# Altium footprint library mylib.PcbLib: 214 footprints (part 13 of 14)
Each footprint in its own frame and in the unit in brackets; x right, y up, seen from the top. Pads: shape width x height; smd on the part's side, far side on the other; paste and mask are expansions set on the pad; w line width, h text height; cw(c..) or ccw(c..) is an arc to the next point about the centre after c.
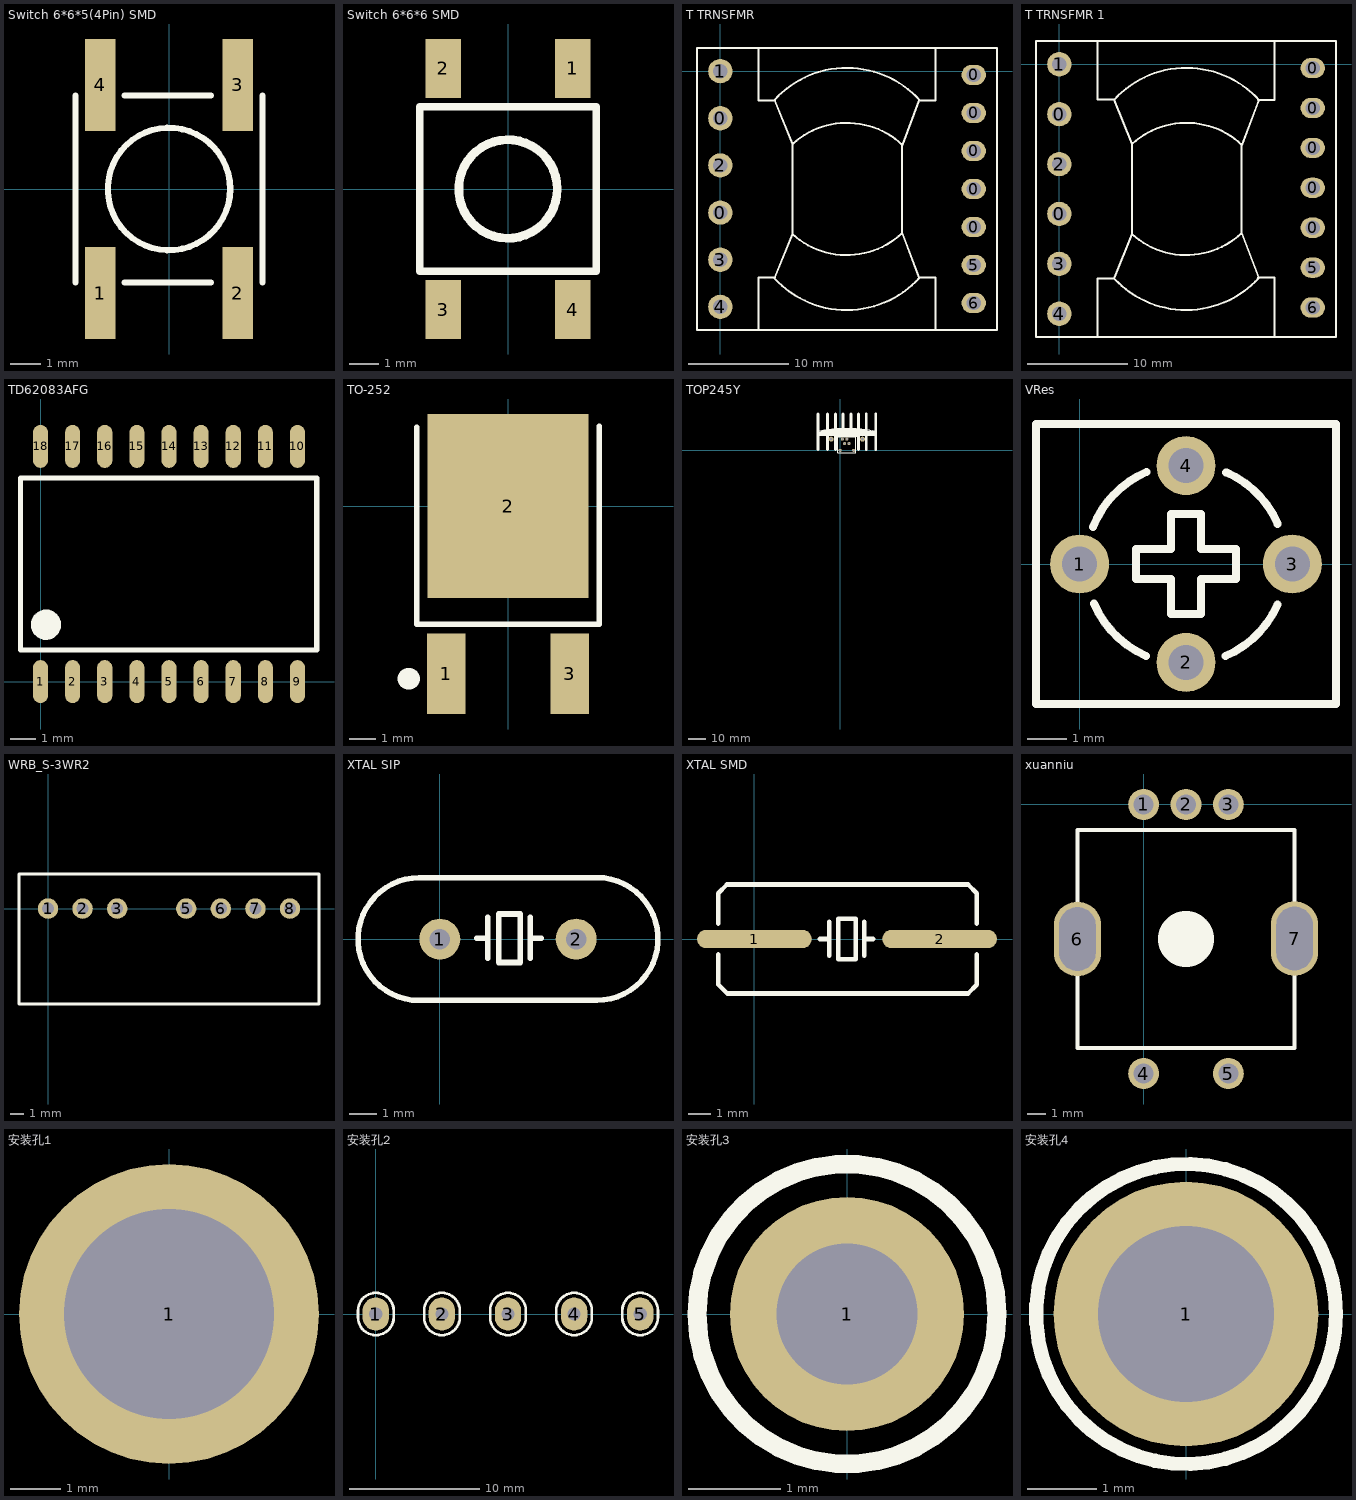
[diagram p12: the footprints below, top view; thin cyan lines are the x and y axes]

## Switch 6*6*5(4Pin) SMD [mm]
pads (4):
  rect 1x3 smd: 1(-2.25,-3.4) 2(2.25,-3.4) 3(2.25,3.4) 4(-2.25,3.4)
Top Overlay:
  circle w0.2: c0,0 r2
  lines w0.2: -3.05,-3.05 -3.05,3.05 ; -1.448,-3.05 1.372,-3.05 ; -1.448,3.05 1.372,3.05 ; 3.05,-3.05 3.05,3.05

## Switch 6*6*6 SMD [mm]
pads (4):
  rect 1.2x2 smd: 1(2.2,4.1) 2(-2.2,4.1) 3(-2.2,-4.1) 4(2.2,-4.1)
Top Overlay:
  circle w0.3: c0,0 r1.674
  lines w0.254: -3,-2.8 3,-2.8 3,2.8 -3,2.8 -3,-2.8

## T TRNSFMR [mil]
pads (13):
  round 96 hole 56: 0(0,-558) 0(0,-186) 1(0,0) 2(0,-372) 3(0,-744) 4(0,-930)
  oval 96x80 hole 56: 0(1000,-615) 0(1000,-465) 0(1000,-315) 0(1000,-165) 0(1000,-15) 5(1000,-765) 6(1000,-915)
Top Overlay:
  lines w8: 150,-1021 150,-815 215,-815 284.61,-642.86 ; 150,90 150,-115 215,-115 285.61,-287.14 ; 213.57,-816.86 ccw(c499,-557) 786.13,-814.98 ; 214.57,-113.14 cw(c500,-373) 787.13,-115.02 ; 717,-291 717.92,-638.65 cw(c499,-408) 284.61,-642.86 ; 717.92,-638.31 785,-815 850,-815 850,-1021 ; 850,90 850,-115 785,-115 718.92,-291.35 ccw(c500,-522) 285.61,-287.14 ; 284.61,-642.86 285.61,-287.14 ; -92,-1022 1092,-1022 1092,92 -92,92 -92,-1022

## T TRNSFMR 1 [mil]
pads (13):
  round 96 hole 56: 0(0,-590.55) 0(0,-196.85) 1(0,0) 2(0,-393.7) 3(0,-787.4) 4(0,-984.25)
  oval 96x80 hole 56: 0(1000,-644.92) 0(1000,-487.44) 0(1000,-329.96) 0(1000,-172.48) 0(1000,-15) 5(1000,-802.4) 6(1000,-959.88)
Top Overlay:
  lines w8: 150,-1070 150,-845.25 215,-845.25 ; 150,90 150,-139.25 215.87,-139.25 287.61,-314.14 ; 215.57,-843.86 ccw(c501,-584) 788.13,-841.98 ; 216.57,-140.14 cw(c502,-400) 789.13,-142.02 ; 217,-842 286.61,-669.86 ; 719,-318 719.92,-665.65 cw(c501,-435) 286.61,-669.86 ; 719.92,-665.31 787,-842 ; 785,-842.25 850,-842.25 850,-1070 ; 785,-141.25 850,-141.25 850,90 ; 787,-142 720.92,-318.35 ccw(c502,-549) 287.61,-314.14 ; 286.61,-669.86 287.61,-314.14 ; -92,-1076.25 1092,-1076.25 1092,92 -92,92 -92,-1076.25

## TD62083AFG [mm]
pads (18):
  oval 0.6x1.7 smd: 1(0,0) 2(1.27,0) 3(2.54,0) 4(3.81,0) 5(5.08,0) 6(6.35,0) 7(7.62,0) 8(8.89,0) 9(10.16,0) 10(10.16,9.3) 11(8.89,9.3) 12(7.62,9.3) 13(6.35,9.3) 14(5.08,9.3) 15(3.81,9.3) 16(2.54,9.3) 17(1.27,9.3) 18(0,9.3)
Top Overlay:
  circle w0.6: c0.215,2.25 r0.3
  lines w0.203: -0.785,1.25 10.922,1.25 10.922,8.05 -0.785,8.05 -0.785,1.25

## TO-252 [mil]
pads (3):
  rect 56x118 smd: 1(-90.55,-246) 3(90.55,-246)
  rect 236x270 smd: 2(0,0)
Top Overlay:
  lines w7.87: -133.86,116 -133.86,-173.23 133.86,-173.23 133.86,117
  lines w31.5: -146,-253 -145,-253

## TOP245Y [mil]
pads (8):
  round 109 hole 69: 0(-201,250) 0(501,250)
  round 68 hole 44: 1(0,0) 2(50,250) 3(100,150) 4(150,250) 5(200,150) 7(300,0)
Top Overlay:
  rectangle: -486,322 793,420
  region: -482,419 -429,431 -398,439 -308,453 -179,470 -7,482 148,487 385,479 541,464 679,442 781,423 766,406 -482,411
  lines w8: -481.63,421.99 cw(c154,-2702) 777.86,424.37 ; -107,320 393,320 ; -50,-50 350,-50 350,300 -50,300 -50,-50
  lines w60: -493,21 -493,812 ; -283,21 -283,812 ; 583,21 583,812 ; 793,21 793,812
  lines w65: -107,21 -107,812 ; 69,386 69,812 ; 245,405 245,812 ; 407,21 407,812

## VRes [mil]
pads (4):
  round 59 hole 35: 1(0,0) 2(106.3,-98.43) 3(212.6,0) 4(106.3,98.43)
Top Overlay:
  lines w8: 13.16,36.87 cw(c106.3,0) 66.59,91.96 ; 14.23,-39.46 ccw(c106.3,0) 66.4,-91.88 ; 145.63,-92.12 ccw(c106.3,0) 197.84,-40.68 ; 146.5,91.75 cw(c106.3,0) 198.03,40.25 ; -43.7,-140 256.3,-140 256.3,140 -43.7,140 -43.7,-140 ; 56.3,-15 56.3,15 91.3,15 91.3,50 121.3,50 121.3,15 156.3,15 156.3,-15 121.3,-15 121.3,-50 91.3,-50 91.3,-15 56.3,-15

## WRB_S-3WR2 [mil]
pads (7):
  round 59 hole 35: 1(0,0) 2(100,0) 3(200,0) 5(400,0) 6(500,0) 7(600,0) 8(700,0)
Top Overlay:
  lines w8: -84,-276 -84,100 784,100 784,-276 -84,-276

## XTAL SIP [mil]
pads (2):
  round 59 hole 29.5 mask+0: 1(0,0) 2(196.85,0)
Top Overlay:
  lines w8: -29.53,-88.58 cw(c-29.53,0) -29.53,88.58 ; -29.53,-88.37 226.38,-88.37 ccw(c226.38,0.21) 226.38,88.79 -29.53,88.79 ; 53.42,1.21 69.42,1.21 ; 69.42,-27.79 69.42,31.21 ; 130.42,-27.79 130.42,31.21 ; 130.42,1.21 146.42,1.21 ; 85,-33.79 116,-33.79 116,36.21 85,36.21 85,-33.79

## XTAL SMD [mil]
pads (2):
  oval 200x32 smd: 1(0,0) 2(322.83,0)
Top Overlay:
  lines w8: -62.76,-27 -62.76,-79.24 -47,-95 372.24,-95 387.24,-80 387.24,-27 ; -62.76,27 -62.76,80 -47.76,95 372.24,95 387.24,80 387.24,27 ; 114.42,0 130.42,0 ; 130.42,-29 130.42,30 ; 191.42,-29 191.42,30 ; 191.42,0 207.42,0 ; 146,-35 177,-35 177,35 146,35 146,-35

## xuanniu [mm]
pads (7):
  round 1.7 hole 1.1 mask+0: 1(0,0) 2(2.33,0) 3(4.66,0) 4(0,-14.8) 5(4.66,-14.8)
  oval 2.6x4.1 hole 2 slot 3.5 at 90 deg mask+0: 6(-3.639,-7.4) 7(8.299,-7.375)
Top Overlay:
  circle w3: c2.33,-7.4 r0.036
  lines w0.203: -3.639,-9.372 -3.639,-13.4 8.299,-13.4 8.299,-9.372 ; -3.639,-5.435 -3.639,-1.4 8.299,-1.4 8.299,-1.422 8.299,-5.359

## 安装孔1 [mm]
pads (1):
  round 6 hole 4.2: 1(0,0)

## 安装孔2 [mil]
pads (5):
  oval 80x100 hole 40: 1(0,0) 2(200,0) 3(400,0) 4(600,0) 5(800,0)
Top Overlay:
  lines w8: -54,-10 ccw(c0,-10) 54,-10 54,10 ccw(c0,10) -54,10 -54,-10 ; 146,-10 ccw(c200,-10) 254,-10 254,10 ccw(c200,10) 146,10 146,-10 ; 346,-10 ccw(c400,-10) 454,-10 454,10 ccw(c400,10) 346,10 346,-10 ; 546,-10 ccw(c600,-10) 654,-10 654,10 ccw(c600,10) 546,10 546,-10 ; 746,-10 ccw(c800,-10) 854,-10 854,10 ccw(c800,10) 746,10 746,-10

## 安装孔3 [mil]
pads (1):
  round 100 hole 60: 1(0,0)
Top Overlay:
  circle w8: c0,0 r64

## 安装孔4 [mil]
pads (1):
  round 150 hole 100: 1(0,0)
Top Overlay:
  circle w8: c0,0 r85